# Altium footprint library EIA.TO,SOT.PcbLib: 17 footprints (part 2 of 2)
Each footprint in its own frame and in the unit in brackets; x right, y up, seen from the top. Pads: shape width x height; smd on the part's side, far side on the other; paste and mask are expansions set on the pad; w line width, h text height; cw(c..) or ccw(c..) is an arc to the next point about the centre after c.
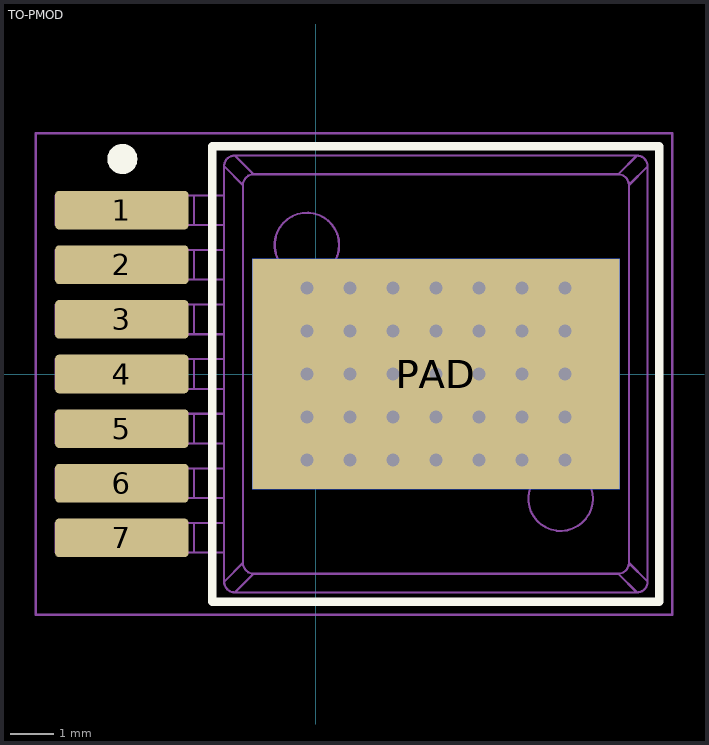
[diagram p1: the footprint, top view; thin cyan lines are the x and y axes]

## TO-PMOD [mm] "TI TO-PMOD Package, 13.77x9.85mm, Exposed pad 8.54x5.35mm, 7-Leads"
height 4.57
pads (9):
  rrect20% 3.1x0.9 smd: 1(-4.513,3.81) 2(-4.513,2.54) 3(-4.513,1.27) 4(-4.513,0) 5(-4.513,-1.27) 6(-4.513,-2.54) 7(-4.513,-3.81)
  rect 8.54x5.35 smd: PAD(2.792,0)
  rect 8.54x5.35 smd far side paste-2539.97: PAD(2.792,0)
via -0.208,-2 diameter 0.6 hole 0.3
via -0.208,2 diameter 0.6 hole 0.3
via -0.208,1 diameter 0.6 hole 0.3
via -0.208,-1 diameter 0.6 hole 0.3
via -0.208,0 diameter 0.6 hole 0.3
via 2.792,0 diameter 0.6 hole 0.3
via 2.792,-1 diameter 0.6 hole 0.3
via 2.792,1 diameter 0.6 hole 0.3
via 2.792,2 diameter 0.6 hole 0.3
via 2.792,-2 diameter 0.6 hole 0.3
via 3.792,0 diameter 0.6 hole 0.3
via 3.792,-1 diameter 0.6 hole 0.3
via 3.792,1 diameter 0.6 hole 0.3
via 3.792,2 diameter 0.6 hole 0.3
via 3.792,-2 diameter 0.6 hole 0.3
via 1.792,0 diameter 0.6 hole 0.3
via 1.792,-1 diameter 0.6 hole 0.3
via 1.792,1 diameter 0.6 hole 0.3
via 1.792,2 diameter 0.6 hole 0.3
via 1.792,-2 diameter 0.6 hole 0.3
via 4.793,0 diameter 0.6 hole 0.3
via 4.793,-1 diameter 0.6 hole 0.3
via 4.793,1 diameter 0.6 hole 0.3
via 4.793,2 diameter 0.6 hole 0.3
via 4.793,-2 diameter 0.6 hole 0.3
via 5.793,0 diameter 0.6 hole 0.3
via 5.793,-1 diameter 0.6 hole 0.3
via 5.793,1 diameter 0.6 hole 0.3
via 5.793,2 diameter 0.6 hole 0.3
via 5.793,-2 diameter 0.6 hole 0.3
via 0.792,0 diameter 0.6 hole 0.3
via 0.792,-1 diameter 0.6 hole 0.3
via 0.792,1 diameter 0.6 hole 0.3
via 0.792,2 diameter 0.6 hole 0.3
via 0.792,-2 diameter 0.6 hole 0.3
Top Overlay:
  circle w0.2: c-4.5,5 r0.25
  region: -4.5,4.75 -4.55,4.75 -4.642,4.788 -4.712,4.858 -4.75,4.95 -4.75,5 -4.75,5.05 -4.712,5.142 -4.642,5.212 -4.55,5.25 -4.5,5.25 -4.45,5.25 -4.358,5.212 -4.288,5.142 -4.25,5.05 -4.25,5 -4.25,4.95 -4.288,4.858 -4.358,4.788 -4.45,4.75
  lines w0.2: -2.412,-5.3 7.987,-5.3 7.987,5.3 -2.412,5.3 -2.412,-5.3
Mechanical 1:
  circle w0.05: c5.692,-2.9 r0.75
  circle w0.05: c-0.208,3 r0.75
  lines w0.05: -4.258,-4.155 -4.258,-3.465 ; -4.258,-2.885 -4.258,-2.195 ; -4.258,-1.615 -4.258,-0.925 ; -4.258,-0.345 -4.258,0.345 ; -4.258,0.925 -4.258,1.615 ; -4.258,2.195 -4.258,2.885 ; -4.258,3.465 -4.258,4.155 ; -3.729,-4.155 -3.729,-3.465 ; -3.729,-2.885 -3.729,-2.195 ; -3.729,-1.615 -3.729,-0.925 ; -3.729,-0.345 -3.729,0.345 ; -3.729,0.925 -3.729,1.615 ; -3.729,2.195 -3.729,2.885 ; -3.729,3.465 -3.729,4.155 ; -3.512,-4.155 -3.512,-3.465 ; -3.512,-2.885 -3.512,-2.195 ; -3.512,-1.615 -3.512,-0.925 ; -3.512,-0.345 -3.512,0.345 ; -3.512,0.925 -3.512,1.615 ; -3.512,2.195 -3.512,2.885 ; -3.512,3.465 -3.512,4.155 ; -2.833,-4.155 -2.833,-3.465 ; -2.833,-2.885 -2.833,-2.195 ; -2.833,-1.615 -2.833,-0.925 ; -2.833,-0.345 -2.833,0.345 ; -2.833,0.925 -2.833,1.615 ; -2.833,2.195 -2.833,2.885 ; -2.833,3.465 -2.833,4.155 ; -2.133,-4.83 -2.132,4.83 ; -2.132,-4.155 -6.052,-4.155 -6.053,-3.465 -2.133,-3.465 ; -2.133,-2.885 -6.052,-2.885 -6.053,-2.195 -2.133,-2.195 ; -2.132,-1.615 -6.052,-1.615 -6.052,-0.925 -2.133,-0.925 ; -2.132,-0.345 -6.052,-0.345 -6.052,0.345 -2.133,0.345 ; -2.133,0.925 -6.053,0.925 -6.053,1.615 -2.132,1.615 ; -2.133,2.195 -6.052,2.195 -6.052,2.885 -2.133,2.885 ; -2.133,3.465 -6.052,3.465 -6.052,4.155 -2.133,4.155 ; -1.884,-5.08 -1.448,-4.644 ; -1.883,5.08 7.467,5.08 cw(c7.467,4.83) 7.717,4.83 7.717,-4.83 ; 7.469,-5.08 7.033,-4.644 ; 7.469,5.08 7.033,4.644 ; 7.717,4.832 7.282,4.396 ; -1.697,-4.396 ccw(c-1.444,-4.392) -1.448,-4.644 ; -1.697,-4.396 -1.697,4.396 ; -1.697,-4.396 -2.132,-4.832 ccw(c-1.883,-4.831) -1.883,-5.08 7.467,-5.08 ccw(c7.468,-4.831) 7.717,-4.832 7.282,-4.396 ; -1.697,4.396 cw(c-1.444,4.392) -1.448,4.644 ; -1.697,4.396 -2.132,4.832 cw(c-1.884,4.832) -1.884,5.08 -1.448,4.644 ; -1.448,-4.644 7.033,-4.644 ; -1.448,4.644 7.033,4.644 ; 7.033,-4.644 ccw(c7.029,-4.392) 7.282,-4.396 ; 7.033,4.644 cw(c7.029,4.392) 7.282,4.396 ; 7.282,-4.396 7.282,4.396
Mechanical 15:
  lines w0.05: -6.513,-5.6 -6.513,5.6 8.287,5.6 8.287,-5.6 -6.513,-5.6
  lines w0.1: -0.5,0 0.5,0 ; 0,-0.5 0,0.5
3D body "TO-PMOD.STEP": height 4.77, standoff 0, extent -6.052,-5.08 7.717,5.08